# EAGLE library part KISS_ESC_32A (library jack_specialty)
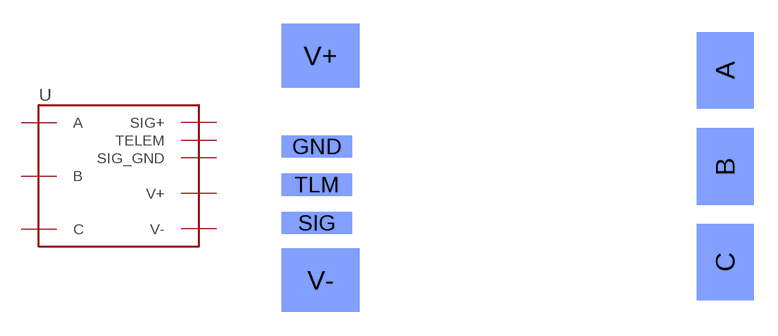
[diagram p3: symbol with the pads of KISS_ESC_32A; footprint KISS_ESC_32A]

Designator prefix -

## KISS_ESC_32A  [KISS_ESC_32A]
A  A
B  B
C  C
GND  SIG_GND
SIG  SIG+
TLM  TELEM
V+  V+
V-  V-

## Footprint KISS_ESC_32A (pad centres in mm)
smd 3.576 x 4.8 bottom: A 26.558,15.95; B 26.558,9.9; C 26.558,3.9
smd 4.419 x 1.397 bottom: GND 0.94,11.159; SIG 0.94,6.359; TLM 0.94,8.758
smd 4.87 x 4 bottom: V+ 1.165,16.86; V- 1.165,2.76